# EAGLE library part LAN8720A-CP (library my-MicrochipTechnology)
Ethernet ICs RMII 10/100 ETH XCVR w/HP AutoMDIXSupport
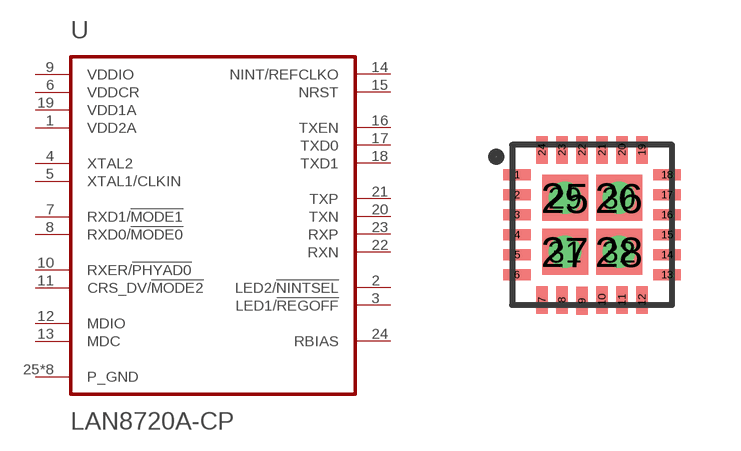
[diagram p5: symbol with the pads of QFN-24(4X4MM); footprint QFN-24(4X4MM)]

Designator prefix -

## LAN8720A-CP  [QFN-24(4X4MM)]
1  VDD2A
2  LED2/!NINTSEL
3  LED1/!REGOFF
4  XTAL2
5  XTAL1/CLKIN
6  VDDCR
7  RXD1/!MODE1
8  RXD0/!MODE0
9  VDDIO
10  RXER/!PHYAD0
11  CRS_DV/!MODE2
12  MDIO
13  MDC
14  NINT/REFCLKO
15  NRST
16  TXEN
17  TXD0
18  TXD1
19  VDD1A
20  TXN
21  TXP
22  RXN
23  RXP
24  RBIAS
25  P_GND
26  P_GND
27  P_GND
28  P_GND
29  P_GND
30  P_GND
31  P_GND
32  P_GND

## Footprint QFN-24(4X4MM) (pad centres in mm)
smd 0.69 x 0.28: 1 -1.875,1.25; 2 -1.875,0.75; 3 -1.875,0.25; 4 -1.875,-0.25; 5 -1.875,-0.75; 6 -1.875,-1.25; 13 1.875,-1.25; 14 1.875,-0.75; 15 1.875,-0.25; 16 1.875,0.25; 17 1.875,0.75; 18 1.875,1.25
smd 0.28 x 0.69: 7 -1.25,-1.875; 8 -0.75,-1.875; 9 -0.25,-1.9; 10 0.25,-1.875; 11 0.75,-1.875; 12 1.25,-1.875; 19 1.25,1.875; 20 0.75,1.875; 21 0.25,1.875; 22 -0.25,1.875; 23 -0.75,1.875; 24 -1.25,1.875
smd 1.15 x 1.15: 25 -0.675,0.675; 26 0.675,0.675; 27 -0.675,-0.675; 28 0.675,-0.675
drill 0.3: 29 -0.675,0.675; 30 0.675,0.675; 31 -0.675,-0.675; 32 0.675,-0.675